# Altium footprint library SPECTR.PcbLib: 1 footprints
Each footprint in its own frame and in the unit in brackets; x right, y up, seen from the top. Pads: shape width x height; smd on the part's side, far side on the other; paste and mask are expansions set on the pad; w line width, h text height; cw(c..) or ccw(c..) is an arc to the next point about the centre after c.
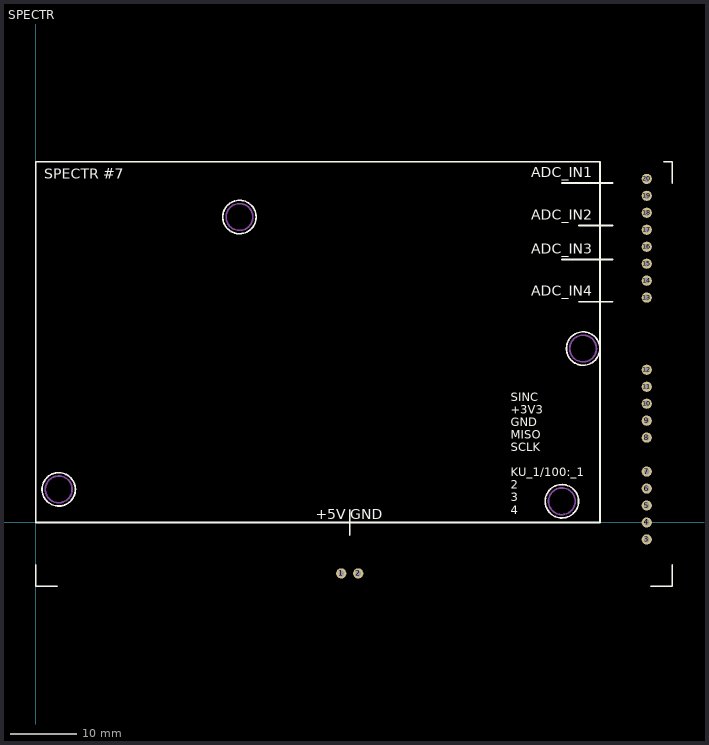
[diagram p0: the footprint, top view; thin cyan lines are the x and y axes]

## SPECTR [mil] "4x ADC-block"
pads (20):
  round 60 hole 35: 1(1800,-300) 2(1900,-300) 3(3600,-100) 4(3600,0) 5(3600,100) 6(3600,200) 7(3600,300) 8(3600,500) 9(3600,600) 10(3600,700) 11(3600,800) 12(3600,900) 13(3600,1325) 14(3600,1425) 15(3600,1525) 16(3600,1625) 17(3600,1725) 18(3600,1825) 19(3600,1925) 20(3600,2025)
Top Overlay:
  circle w10: c3100,125 r98.43
  circle w10: c3225,1025 r98.43
  circle w10: c1200,1800 r98.43
  circle w10: c135,195 r98.43
  lines w10: 0,-250 0,-375 125,-375 ; 1850,-75 1850,75 ; 3100,1550 3400,1550 ; 3100,2000 3400,2000 ; 3200,1300 3400,1300 ; 3200,1750 3400,1750 ; 3625,-375 3750,-375 3750,-250 ; 3700,2125 3750,2125 3750,2000 ; 0,0 3325,0 3325,2125 0,2125 0,0
  text "SPECTR #7" at 50,2025 h60
  text "ADC_IN4" at 2920,1335 h60
  text "ADC_IN3" at 2920,1585 h60
  text "ADC_IN2" at 2920,1785 h60
  text "ADC_IN1" at 2920,2035 h60
  text "+5V GND" at 1650,20 h60
  text "SINC / +3V3  / GND / MISO / SCLK /  / KU_1/100:_1 / 2 / 3 / 4" at 2800,50 h49.21
Mechanical 1:
  circle w10: c1200,1800 r78.74
  circle w10: c135,195 r78.74
  circle w10: c3225,1025 r78.74
  circle w10: c3100,125 r78.74
3D body: height 275.59, standoff 196.85, extent 0,0 3325,2125